# EAGLE library part LTC6078 (library Analog Devices)
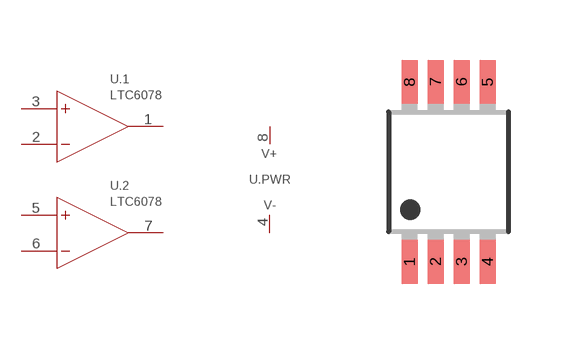
[diagram p11: symbol with the pads of MSOP8; footprint MSOP8]

Designator prefix U; gates .1=OP_AMP .2=OP_AMP .PWR=OP_AMP_PWR

## LTC6078ACMS8, LTC6078AHMS8, LTC6078AIMS8, LTC6078CMS8, LTC6078HMS8, LTC6078IMS8  [MSOP8]
1  .1:OUT  out
2  .1:-IN  in
3  .1:+IN  in
4  .PWR:V-  pwr
5  .2:+IN  in
6  .2:-IN  in
7  .2:OUT  out
8  .PWR:V+  pwr

## Footprint MSOP8 (pad centres in mm)
smd 0.4 x 1.1: 1 -0.975,-2.25; 2 -0.325,-2.25; 3 0.325,-2.25; 4 0.975,-2.25; 5 0.975,2.25; 6 0.325,2.25; 7 -0.325,2.25; 8 -0.975,2.25